# Altium footprint library NNLightSwitcher1.PcbLib: 6 footprints
Each footprint in its own frame and in the unit in brackets; x right, y up, seen from the top. Pads: shape width x height; smd on the part's side, far side on the other; paste and mask are expansions set on the pad; w line width, h text height; cw(c..) or ccw(c..) is an arc to the next point about the centre after c.
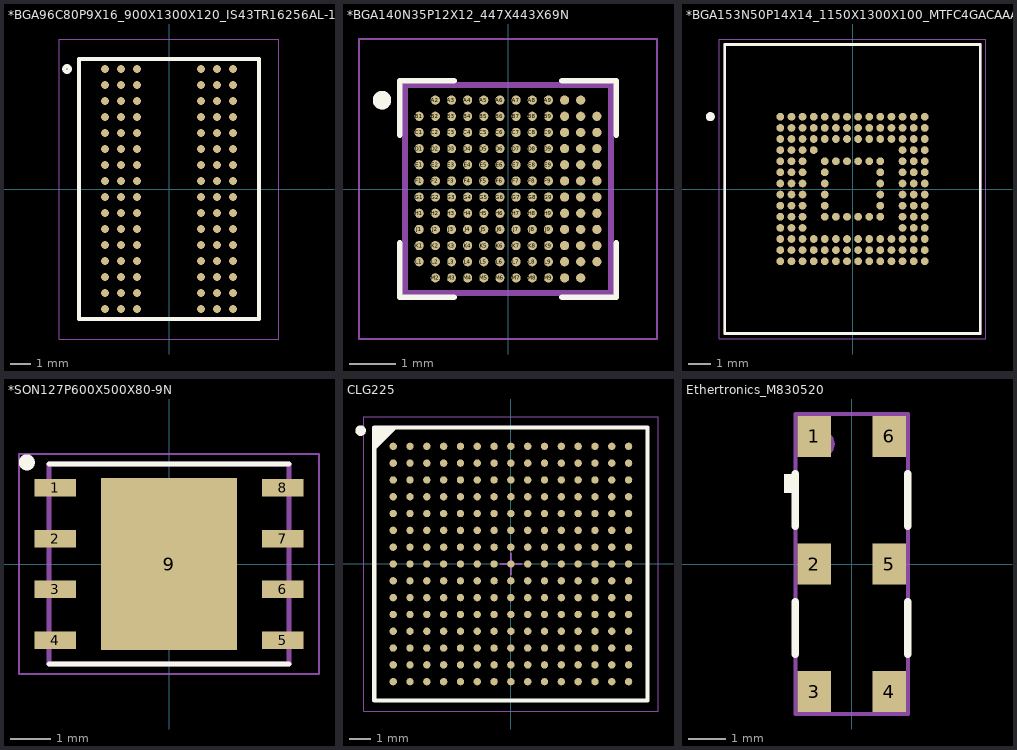
[diagram p0: the footprints below, top view; thin cyan lines are the x and y axes]

## *BGA96C80P9X16_900X1300X120_IS43TR16256AL-125KBL(Primary) [mm]
pads (96):
  round 0.4 smd: A1(-3.2,6) A2(-2.4,6) A3(-1.6,6) A7(1.6,6) A8(2.4,6) A9(3.2,6) B1(-3.2,5.2) B2(-2.4,5.2) B3(-1.6,5.2) B7(1.6,5.2) B8(2.4,5.2) B9(3.2,5.2) C1(-3.2,4.4) C2(-2.4,4.4) C3(-1.6,4.4) C7(1.6,4.4) C8(2.4,4.4) C9(3.2,4.4) D1(-3.2,3.6) D2(-2.4,3.6) D3(-1.6,3.6) D7(1.6,3.6) D8(2.4,3.6) D9(3.2,3.6) E1(-3.2,2.8) E2(-2.4,2.8) E3(-1.6,2.8) E7(1.6,2.8) E8(2.4,2.8) E9(3.2,2.8) F1(-3.2,2) F2(-2.4,2) F3(-1.6,2) F7(1.6,2) F8(2.4,2) F9(3.2,2) G1(-3.2,1.2) G2(-2.4,1.2) G3(-1.6,1.2) G7(1.6,1.2) G8(2.4,1.2) G9(3.2,1.2) H1(-3.2,0.4) H2(-2.4,0.4) H3(-1.6,0.4) H7(1.6,0.4) H8(2.4,0.4) H9(3.2,0.4) J1(-3.2,-0.4) J2(-2.4,-0.4) J3(-1.6,-0.4) J7(1.6,-0.4) J8(2.4,-0.4) J9(3.2,-0.4) K1(-3.2,-1.2) K2(-2.4,-1.2) K3(-1.6,-1.2) K7(1.6,-1.2) K8(2.4,-1.2) K9(3.2,-1.2) L1(-3.2,-2) L2(-2.4,-2) L3(-1.6,-2) L7(1.6,-2) L8(2.4,-2) L9(3.2,-2) M1(-3.2,-2.8) M2(-2.4,-2.8) M3(-1.6,-2.8) M7(1.6,-2.8) M8(2.4,-2.8) M9(3.2,-2.8) N1(-3.2,-3.6) N2(-2.4,-3.6) N3(-1.6,-3.6) N7(1.6,-3.6) N8(2.4,-3.6) N9(3.2,-3.6) P1(-3.2,-4.4) P2(-2.4,-4.4) P3(-1.6,-4.4) P7(1.6,-4.4) P8(2.4,-4.4) P9(3.2,-4.4) R1(-3.2,-5.2) R2(-2.4,-5.2) R3(-1.6,-5.2) R7(1.6,-5.2) R8(2.4,-5.2) R9(3.2,-5.2) T1(-3.2,-6) T2(-2.4,-6) T3(-1.6,-6) T7(1.6,-6) T8(2.4,-6) T9(3.2,-6)
Top Overlay:
  circle w0.2: c-5.1,6 r0.141
  lines w0.203: -4.5,-6.5 -4.5,6.5 4.5,6.5 4.5,-6.5 -4.5,-6.5
Top Solder:
  circle w0: c-3.2,6 r0.2
  circle w0: c-2.4,6 r0.2
  circle w0: c-1.6,6 r0.2
  circle w0: c1.6,6 r0.2
  circle w0: c2.4,6 r0.2
  circle w0: c3.2,6 r0.2
  circle w0: c-3.2,5.2 r0.2
  circle w0: c-2.4,5.2 r0.2
  circle w0: c-1.6,5.2 r0.2
  circle w0: c1.6,5.2 r0.2
  circle w0: c2.4,5.2 r0.2
  circle w0: c3.2,5.2 r0.2
  circle w0: c-3.2,4.4 r0.2
  circle w0: c-2.4,4.4 r0.2
  circle w0: c-1.6,4.4 r0.2
  circle w0: c1.6,4.4 r0.2
  circle w0: c2.4,4.4 r0.2
  circle w0: c3.2,4.4 r0.2
  circle w0: c-3.2,3.6 r0.2
  circle w0: c-2.4,3.6 r0.2
  circle w0: c-1.6,3.6 r0.2
  circle w0: c1.6,3.6 r0.2
  circle w0: c2.4,3.6 r0.2
  circle w0: c3.2,3.6 r0.2
  circle w0: c-3.2,2.8 r0.2
  circle w0: c-2.4,2.8 r0.2
  circle w0: c-1.6,2.8 r0.2
  circle w0: c1.6,2.8 r0.2
  circle w0: c2.4,2.8 r0.2
  circle w0: c3.2,2.8 r0.2
  circle w0: c-3.2,2 r0.2
  circle w0: c-2.4,2 r0.2
  circle w0: c-1.6,2 r0.2
  circle w0: c1.6,2 r0.2
  circle w0: c2.4,2 r0.2
  circle w0: c3.2,2 r0.2
  circle w0: c-3.2,1.2 r0.2
  circle w0: c-2.4,1.2 r0.2
  circle w0: c-1.6,1.2 r0.2
  circle w0: c1.6,1.2 r0.2
  circle w0: c2.4,1.2 r0.2
  circle w0: c3.2,1.2 r0.2
  circle w0: c-3.2,0.4 r0.2
  circle w0: c-2.4,0.4 r0.2
  circle w0: c-1.6,0.4 r0.2
  circle w0: c1.6,0.4 r0.2
  circle w0: c2.4,0.4 r0.2
  circle w0: c3.2,0.4 r0.2
  circle w0: c-3.2,-0.4 r0.2
  circle w0: c-2.4,-0.4 r0.2
  circle w0: c-1.6,-0.4 r0.2
  circle w0: c1.6,-0.4 r0.2
  circle w0: c2.4,-0.4 r0.2
  circle w0: c3.2,-0.4 r0.2
  circle w0: c-3.2,-1.2 r0.2
  circle w0: c-2.4,-1.2 r0.2
  circle w0: c-1.6,-1.2 r0.2
  circle w0: c1.6,-1.2 r0.2
  circle w0: c2.4,-1.2 r0.2
  circle w0: c3.2,-1.2 r0.2
  circle w0: c-3.2,-2 r0.2
  circle w0: c-2.4,-2 r0.2
  circle w0: c-1.6,-2 r0.2
  circle w0: c1.6,-2 r0.2
  circle w0: c2.4,-2 r0.2
  circle w0: c3.2,-2 r0.2
  circle w0: c-3.2,-2.8 r0.2
  circle w0: c-2.4,-2.8 r0.2
  circle w0: c-1.6,-2.8 r0.2
  circle w0: c1.6,-2.8 r0.2
  circle w0: c2.4,-2.8 r0.2
  circle w0: c3.2,-2.8 r0.2
  circle w0: c-3.2,-3.6 r0.2
  circle w0: c-2.4,-3.6 r0.2
  circle w0: c-1.6,-3.6 r0.2
  circle w0: c1.6,-3.6 r0.2
  circle w0: c2.4,-3.6 r0.2
  circle w0: c3.2,-3.6 r0.2
  circle w0: c-3.2,-4.4 r0.2
  circle w0: c-2.4,-4.4 r0.2
  circle w0: c-1.6,-4.4 r0.2
  circle w0: c1.6,-4.4 r0.2
  circle w0: c2.4,-4.4 r0.2
  circle w0: c3.2,-4.4 r0.2
  circle w0: c-3.2,-5.2 r0.2
  circle w0: c-2.4,-5.2 r0.2
  circle w0: c-1.6,-5.2 r0.2
  circle w0: c1.6,-5.2 r0.2
  circle w0: c2.4,-5.2 r0.2
  circle w0: c3.2,-5.2 r0.2
  circle w0: c-3.2,-6 r0.2
  circle w0: c-2.4,-6 r0.2
  circle w0: c-1.6,-6 r0.2
  circle w0: c1.6,-6 r0.2
  circle w0: c2.4,-6 r0.2
  circle w0: c3.2,-6 r0.2
Mechanical 16:
  lines w0.05: -5.5,-7.5 -5.5,7.5 5.5,7.5 5.5,-7.5 -5.5,-7.5

## *BGA140N35P12X12_447X443X69N [mm]
pads (140):
  round 0.2 smd: A2(-1.575,1.925) A3(-1.225,1.925) A4(-0.875,1.925) A5(-0.525,1.925) A6(-0.175,1.925) A7(0.175,1.925) A8(0.525,1.925) A9(0.875,1.925) A10(1.225,1.925) A11(1.575,1.925) B1(-1.925,1.575) B2(-1.575,1.575) B3(-1.225,1.575) B4(-0.875,1.575) B5(-0.525,1.575) B6(-0.175,1.575) B7(0.175,1.575) B8(0.525,1.575) B9(0.875,1.575) B10(1.225,1.575) B11(1.575,1.575) B12(1.925,1.575) C1(-1.925,1.225) C2(-1.575,1.225) C3(-1.225,1.225) C4(-0.875,1.225) C5(-0.525,1.225) C6(-0.175,1.225) C7(0.175,1.225) C8(0.525,1.225) C9(0.875,1.225) C10(1.225,1.225) C11(1.575,1.225) C12(1.925,1.225) D1(-1.925,0.875) D2(-1.575,0.875) D3(-1.225,0.875) D4(-0.875,0.875) D5(-0.525,0.875) D6(-0.175,0.875) D7(0.175,0.875) D8(0.525,0.875) D9(0.875,0.875) D10(1.225,0.875) D11(1.575,0.875) D12(1.925,0.875) E1(-1.925,0.525) E2(-1.575,0.525) E3(-1.225,0.525) E4(-0.875,0.525) E5(-0.525,0.525) E6(-0.175,0.525) E7(0.175,0.525) E8(0.525,0.525) E9(0.875,0.525) E10(1.225,0.525) E11(1.575,0.525) E12(1.925,0.525) F1(-1.925,0.175) F2(-1.575,0.175) F3(-1.225,0.175) F4(-0.875,0.175) F5(-0.525,0.175) F6(-0.175,0.175) F7(0.175,0.175) F8(0.525,0.175) F9(0.875,0.175) F10(1.225,0.175) F11(1.575,0.175) F12(1.925,0.175) G1(-1.925,-0.175) G2(-1.575,-0.175) G3(-1.225,-0.175) G4(-0.875,-0.175) G5(-0.525,-0.175) G6(-0.175,-0.175) G7(0.175,-0.175) G8(0.525,-0.175) G9(0.875,-0.175) G10(1.225,-0.175) G11(1.575,-0.175) G12(1.925,-0.175) H1(-1.925,-0.525) H2(-1.575,-0.525) H3(-1.225,-0.525) H4(-0.875,-0.525) H5(-0.525,-0.525) H6(-0.175,-0.525) H7(0.175,-0.525) H8(0.525,-0.525) H9(0.875,-0.525) H10(1.225,-0.525) H11(1.575,-0.525) H12(1.925,-0.525) J1(-1.925,-0.875) J2(-1.575,-0.875) J3(-1.225,-0.875) J4(-0.875,-0.875) J5(-0.525,-0.875) J6(-0.175,-0.875) J7(0.175,-0.875) J8(0.525,-0.875) J9(0.875,-0.875) J10(1.225,-0.875) J11(1.575,-0.875) J12(1.925,-0.875) K1(-1.925,-1.225) K2(-1.575,-1.225) K3(-1.225,-1.225) K4(-0.875,-1.225) K5(-0.525,-1.225) K6(-0.175,-1.225) K7(0.175,-1.225) K8(0.525,-1.225) K9(0.875,-1.225) K10(1.225,-1.225) K11(1.575,-1.225) K12(1.925,-1.225) L1(-1.925,-1.575) L2(-1.575,-1.575) L3(-1.225,-1.575) L4(-0.875,-1.575) L5(-0.525,-1.575) L6(-0.175,-1.575) L7(0.175,-1.575) L8(0.525,-1.575) L9(0.875,-1.575) L10(1.225,-1.575) L11(1.575,-1.575) L12(1.925,-1.575) M2(-1.575,-1.925) M3(-1.225,-1.925) M4(-0.875,-1.925) M5(-0.525,-1.925) M6(-0.175,-1.925) M7(0.175,-1.925) M8(0.525,-1.925) M9(0.875,-1.925) M10(1.225,-1.925) M11(1.575,-1.925)
Top Overlay:
  circle w0.2: c-2.729,1.925 r0.1
  lines w0.127: -2.345,-1.172 -2.345,-2.345 -1.172,-2.345 ; -2.345,1.172 -2.345,2.345 -1.172,2.345 ; 1.172,-2.345 2.345,-2.345 2.345,-1.172 ; 1.172,2.345 2.345,2.345 2.345,1.172
Mechanical 4:
  circle w0.2: c-2.729,1.925 r0.1
  circle w0.2: c-2.729,1.925 r0.1
  lines w0.127: -2.23,-2.25 -2.23,2.25 ; -2.23,-2.25 2.23,-2.25 ; -2.23,-2.25 -2.23,2.25 ; -2.23,-2.25 2.23,-2.25 ; -2.23,2.25 2.23,2.25 ; -2.23,2.25 2.23,2.25 ; 2.23,-2.25 2.23,2.25 ; 2.23,-2.25 2.23,2.25
Mechanical 16:
  lines w0.05: -3.23,-3.25 -3.23,3.25 3.23,3.25 3.23,-3.25 -3.23,-3.25

## *BGA153N50P14X14_1150X1300X100_MTFC4GACAAAM-1M_WT(Primary) [mm]
pads (153):
  round 0.35 smd: A1(-3.25,3.25) A2(-2.75,3.25) A3(-2.25,3.25) A4(-1.75,3.25) A5(-1.25,3.25) A6(-0.75,3.25) A7(-0.25,3.25) A8(0.25,3.25) A9(0.75,3.25) A10(1.25,3.25) A11(1.75,3.25) A12(2.25,3.25) A13(2.75,3.25) A14(3.25,3.25) B1(-3.25,2.75) B2(-2.75,2.75) B3(-2.25,2.75) B4(-1.75,2.75) B5(-1.25,2.75) B6(-0.75,2.75) B7(-0.25,2.75) B8(0.25,2.75) B9(0.75,2.75) B10(1.25,2.75) B11(1.75,2.75) B12(2.25,2.75) B13(2.75,2.75) B14(3.25,2.75) C1(-3.25,2.25) C2(-2.75,2.25) C3(-2.25,2.25) C4(-1.75,2.25) C5(-1.25,2.25) C6(-0.75,2.25) C7(-0.25,2.25) C8(0.25,2.25) C9(0.75,2.25) C10(1.25,2.25) C11(1.75,2.25) C12(2.25,2.25) C13(2.75,2.25) C14(3.25,2.25) D1(-3.25,1.75) D2(-2.75,1.75) D3(-2.25,1.75) D4(-1.75,1.75) D12(2.25,1.75) D13(2.75,1.75) D14(3.25,1.75) E1(-3.25,1.25) E2(-2.75,1.25) E3(-2.25,1.25) E5(-1.25,1.25) E6(-0.75,1.25) E7(-0.25,1.25) E8(0.25,1.25) E9(0.75,1.25) E10(1.25,1.25) E12(2.25,1.25) E13(2.75,1.25) E14(3.25,1.25) F1(-3.25,0.75) F2(-2.75,0.75) F3(-2.25,0.75) F5(-1.25,0.75) F10(1.25,0.75) F12(2.25,0.75) F13(2.75,0.75) F14(3.25,0.75) G1(-3.25,0.25) G2(-2.75,0.25) G3(-2.25,0.25) G5(-1.25,0.25) G10(1.25,0.25) G12(2.25,0.25) G13(2.75,0.25) G14(3.25,0.25) H1(-3.25,-0.25) H2(-2.75,-0.25) H3(-2.25,-0.25) H5(-1.25,-0.25) H10(1.25,-0.25) H12(2.25,-0.25) H13(2.75,-0.25) H14(3.25,-0.25) J1(-3.25,-0.75) J2(-2.75,-0.75) J3(-2.25,-0.75) J5(-1.25,-0.75) J10(1.25,-0.75) J12(2.25,-0.75) J13(2.75,-0.75) J14(3.25,-0.75) K1(-3.25,-1.25) K2(-2.75,-1.25) K3(-2.25,-1.25) K5(-1.25,-1.25) K6(-0.75,-1.25) K7(-0.25,-1.25) K8(0.25,-1.25) K9(0.75,-1.25) K10(1.25,-1.25) K12(2.25,-1.25) K13(2.75,-1.25) K14(3.25,-1.25) L1(-3.25,-1.75) L2(-2.75,-1.75) L3(-2.25,-1.75) L12(2.25,-1.75) L13(2.75,-1.75) L14(3.25,-1.75) M1(-3.25,-2.25) M2(-2.75,-2.25) M3(-2.25,-2.25) M4(-1.75,-2.25) M5(-1.25,-2.25) M6(-0.75,-2.25) M7(-0.25,-2.25) M8(0.25,-2.25) M9(0.75,-2.25) M10(1.25,-2.25) M11(1.75,-2.25) M12(2.25,-2.25) M13(2.75,-2.25) M14(3.25,-2.25) N1(-3.25,-2.75) N2(-2.75,-2.75) N3(-2.25,-2.75) N4(-1.75,-2.75) N5(-1.25,-2.75) N6(-0.75,-2.75) N7(-0.25,-2.75) N8(0.25,-2.75) N9(0.75,-2.75) N10(1.25,-2.75) N11(1.75,-2.75) N12(2.25,-2.75) N13(2.75,-2.75) N14(3.25,-2.75) P1(-3.25,-3.25) P2(-2.75,-3.25) P3(-2.25,-3.25) P4(-1.75,-3.25) P5(-1.25,-3.25) P6(-0.75,-3.25) P7(-0.25,-3.25) P8(0.25,-3.25) P9(0.75,-3.25) P10(1.25,-3.25) P11(1.75,-3.25) P12(2.25,-3.25) P13(2.75,-3.25) P14(3.25,-3.25)
Top Overlay:
  circle w0.2: c-6.4,3.26 r0.1
  lines w0.127: -5.75,-6.5 -5.75,6.5 5.75,6.5 5.75,-6.5 -5.75,-6.5
Mechanical 4:
  circle w0.2: c-6.39,3.25 r0.1
  circle w0.2: c-6.39,3.25 r0.1
  lines w0.127: -5.75,-6.5 -5.75,6.5 ; -5.75,-6.5 5.75,-6.5 ; -5.75,-6.5 -5.75,6.5 ; -5.75,-6.5 5.75,-6.5 ; -5.75,6.5 5.75,6.5 ; -5.75,6.5 5.75,6.5 ; 5.75,-6.5 5.75,6.5 ; 5.75,-6.5 5.75,6.5
Mechanical 16:
  lines w0.05: -6,-6.75 -6,6.75 6,6.75 6,-6.75 -6,-6.75

## *SON127P600X500X80-9N [mm]
pads (9):
  rect 1.04x0.44 smd: 1(-2.845,1.905) 2(-2.845,0.635) 3(-2.845,-0.635) 4(-2.845,-1.905) 5(2.845,-1.905) 6(2.845,-0.635) 7(2.845,0.635) 8(2.845,1.905)
  rect 3.4x4.3 smd: 9(0,0)
Top Overlay:
  circle w0.2: c-3.556,2.54 r0.1
  lines w0.127: -3,-2.5 3,-2.5 ; -3,2.5 3,2.5
Top Paste:
  region: -1.076,1.36 1.075,1.36 1.075,-1.361 -1.076,-1.361
Mechanical 4:
  lines w0.127: -3,-2.5 3,-2.5 ; -3,-2.5 -3,2.5 ; -3,-2.5 3,-2.5 ; -3,-2.5 -3,2.5 ; -3,2.5 3,2.5 ; -3,2.5 3,2.5 ; 3,-2.5 3,2.5 ; 3,-2.5 3,2.5
Mechanical 16:
  lines w0.05: -3.75,-2.75 3.75,-2.75 3.75,2.75 -3.75,2.75 -3.75,-2.75

## CLG225 [mm]
pads (225):
  round 0.35 smd: A1(-5.6,5.6) A2(-4.8,5.6) A3(-4,5.6) A4(-3.2,5.6) A5(-2.4,5.6) A6(-1.6,5.6) A7(-0.8,5.6) A8(0,5.6) A9(0.8,5.6) A10(1.6,5.6) A11(2.4,5.6) A12(3.2,5.6) A13(4,5.6) A14(4.8,5.6) A15(5.6,5.6) B1(-5.6,4.8) B2(-4.8,4.8) B3(-4,4.8) B4(-3.2,4.8) B5(-2.4,4.8) B6(-1.6,4.8) B7(-0.8,4.8) B8(0,4.8) B9(0.8,4.8) B10(1.6,4.8) B11(2.4,4.8) B12(3.2,4.8) B13(4,4.8) B14(4.8,4.8) B15(5.6,4.8) C1(-5.6,4) C2(-4.8,4) C3(-4,4) C4(-3.2,4) C5(-2.4,4) C6(-1.6,4) C7(-0.8,4) C8(0,4) C9(0.8,4) C10(1.6,4) C11(2.4,4) C12(3.2,4) C13(4,4) C14(4.8,4) C15(5.6,4) D1(-5.6,3.2) D2(-4.8,3.2) D3(-4,3.2) D4(-3.2,3.2) D5(-2.4,3.2) D6(-1.6,3.2) D7(-0.8,3.2) D8(0,3.2) D9(0.8,3.2) D10(1.6,3.2) D11(2.4,3.2) D12(3.2,3.2) D13(4,3.2) D14(4.8,3.2) D15(5.6,3.2) E1(-5.6,2.4) E2(-4.8,2.4) E3(-4,2.4) E4(-3.2,2.4) E5(-2.4,2.4) E6(-1.6,2.4) E7(-0.8,2.4) E8(0,2.4) E9(0.8,2.4) E10(1.6,2.4) E11(2.4,2.4) E12(3.2,2.4) E13(4,2.4) E14(4.8,2.4) E15(5.6,2.4) F1(-5.6,1.6) F2(-4.8,1.6) F3(-4,1.6) F4(-3.2,1.6) F5(-2.4,1.6) F6(-1.6,1.6) F7(-0.8,1.6) F8(0,1.6) F9(0.8,1.6) F10(1.6,1.6) F11(2.4,1.6) F12(3.2,1.6) F13(4,1.6) F14(4.8,1.6) F15(5.6,1.6) G1(-5.6,0.8) G2(-4.8,0.8) G3(-4,0.8) G4(-3.2,0.8) G5(-2.4,0.8) G6(-1.6,0.8) G7(-0.8,0.8) G8(0,0.8) G9(0.8,0.8) G10(1.6,0.8) G11(2.4,0.8) G12(3.2,0.8) G13(4,0.8) G14(4.8,0.8) G15(5.6,0.8) H1(-5.6,0) H2(-4.8,0) H3(-4,0) H4(-3.2,0) H5(-2.4,0) H6(-1.6,0) H7(-0.8,0) H8(0,0) H9(0.8,0) H10(1.6,0) H11(2.4,0) H12(3.2,0) H13(4,0) H14(4.8,0) H15(5.6,0) J1(-5.6,-0.8) J2(-4.8,-0.8) J3(-4,-0.8) J4(-3.2,-0.8) J5(-2.4,-0.8) J6(-1.6,-0.8) J7(-0.8,-0.8) J8(0,-0.8) J9(0.8,-0.8) J10(1.6,-0.8) J11(2.4,-0.8) J12(3.2,-0.8) J13(4,-0.8) J14(4.8,-0.8) J15(5.6,-0.8) K1(-5.6,-1.6) K2(-4.8,-1.6) K3(-4,-1.6) K4(-3.2,-1.6) K5(-2.4,-1.6) K6(-1.6,-1.6) K7(-0.8,-1.6) K8(0,-1.6) K9(0.8,-1.6) K10(1.6,-1.6) K11(2.4,-1.6) K12(3.2,-1.6) K13(4,-1.6) K14(4.8,-1.6) K15(5.6,-1.6) L1(-5.6,-2.4) L2(-4.8,-2.4) L3(-4,-2.4) L4(-3.2,-2.4) L5(-2.4,-2.4) L6(-1.6,-2.4) L7(-0.8,-2.4) L8(0,-2.4) L9(0.8,-2.4) L10(1.6,-2.4) L11(2.4,-2.4) L12(3.2,-2.4) L13(4,-2.4) L14(4.8,-2.4) L15(5.6,-2.4) M1(-5.6,-3.2) M2(-4.8,-3.2) M3(-4,-3.2) M4(-3.2,-3.2) M5(-2.4,-3.2) M6(-1.6,-3.2) M7(-0.8,-3.2) M8(0,-3.2) M9(0.8,-3.2) M10(1.6,-3.2) M11(2.4,-3.2) M12(3.2,-3.2) M13(4,-3.2) M14(4.8,-3.2) M15(5.6,-3.2) N1(-5.6,-4) N2(-4.8,-4) N3(-4,-4) N4(-3.2,-4) N5(-2.4,-4) N6(-1.6,-4) N7(-0.8,-4) N8(0,-4) N9(0.8,-4) N10(1.6,-4) N11(2.4,-4) N12(3.2,-4) N13(4,-4) N14(4.8,-4) N15(5.6,-4) P1(-5.6,-4.8) P2(-4.8,-4.8) P3(-4,-4.8) P4(-3.2,-4.8) P5(-2.4,-4.8) P6(-1.6,-4.8) P7(-0.8,-4.8) P8(0,-4.8) P9(0.8,-4.8) P10(1.6,-4.8) P11(2.4,-4.8) P12(3.2,-4.8) P13(4,-4.8) P14(4.8,-4.8) P15(5.6,-4.8) R1(-5.6,-5.6) R2(-4.8,-5.6) R3(-4,-5.6) R4(-3.2,-5.6) R5(-2.4,-5.6) R6(-1.6,-5.6) R7(-0.8,-5.6) R8(0,-5.6) R9(0.8,-5.6) R10(1.6,-5.6) R11(2.4,-5.6) R12(3.2,-5.6) R13(4,-5.6) R14(4.8,-5.6) R15(5.6,-5.6)
Top Overlay:
  circle w0.25: c-7.15,6.35 r0.125
  region: -5.513,6.5 -6.5,5.513 -6.5,6.5
  lines w0.2: -6.5,5.513 -5.513,6.5 ; -6.5,-6.5 6.5,-6.5 6.5,6.5 -6.5,6.5 -6.5,-6.5
Mechanical 13:
  lines w0.1: -6.5,-6.5 6.5,-6.5 6.5,6.5 -6.5,6.5 -6.5,-6.5
Mechanical 15:
  lines w0.05: -7,-7 7,-7 7,7 -7,7 -7,-7
  lines w0.1: -0.5,0 0.5,0 ; 0,-0.5 0,0.5
3D body: height 1.5, standoff 0.25, extent -6.5,-6.5 6.5,6.5

## Ethertronics_M830520 [mm]
pads (6):
  rect 0.9x1.1 smd: 1(-1,3.4) 2(-1,0) 3(-1,-3.4) 4(1,-3.4) 5(1,0) 6(1,3.4)
Top Overlay:
  rectangle: -1.8,1.9 -1.5,2.4
  lines w0.2: -1.5,-2.4 -1.5,-1 ; -1.5,1 -1.5,2.4 ; 1.5,-2.4 1.5,-1 ; 1.5,1 1.5,2.4
Mechanical 5:
  circle w0.1: c-0.8,3.2 r0.3
  lines w0.1: -1.5,-4 1.5,-4 1.5,4 -1.5,4 -1.5,-4
  text ".Designator" at 0.538,-0.908 h1
3D body: height 1.33, standoff 0, extent -1.5,-4 1.5,4
3D body: height 1.33, standoff 1.33, extent -1.099,2.901 -0.501,3.499